# Altium integrated library XIAO_Ecosystem.IntLib: 2 symbols
Pins are listed as number, name and electrical type; pins without a type are passive.

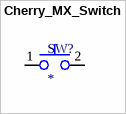
[diagram p0: symbol Cherry_MX_Switch]

## Cherry_MX_Switch
designator SW?
2 Pin Cherry MX Switch
footprint CherryMX_Switch (2 Pin Cherry MX Switch)
pins: 1 4, 2 4


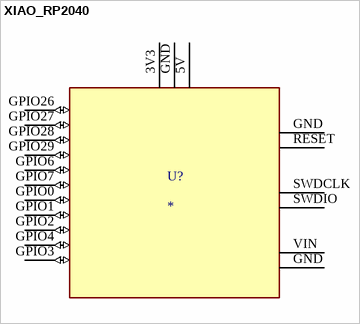
[diagram p1: symbol XIAO_RP2040]

## XIAO_RP2040
designator U?
footprint XIAO_RP2040 (Seed Studio Microcontroller, Mini and compact using the RP2040 Chip)
pins: 3V3 3V3_OUT (power), 5V VBUS (power), GND, GND, GND, GPIO0 D6 (io), GPIO1 D7 (io), GPIO2 D8 (io), GPIO3 D9 (io), GPIO4 D10 (io), GPIO6 D4 (io), GPIO7 D5 (io), GPIO26 D0 (io), GPIO27 D1 (io), GPIO28 D2 (io), GPIO29 D3 (io), RESET, SWDCLK, SWDIO, VIN